# EAGLE library part RS232 (library logic-supply)
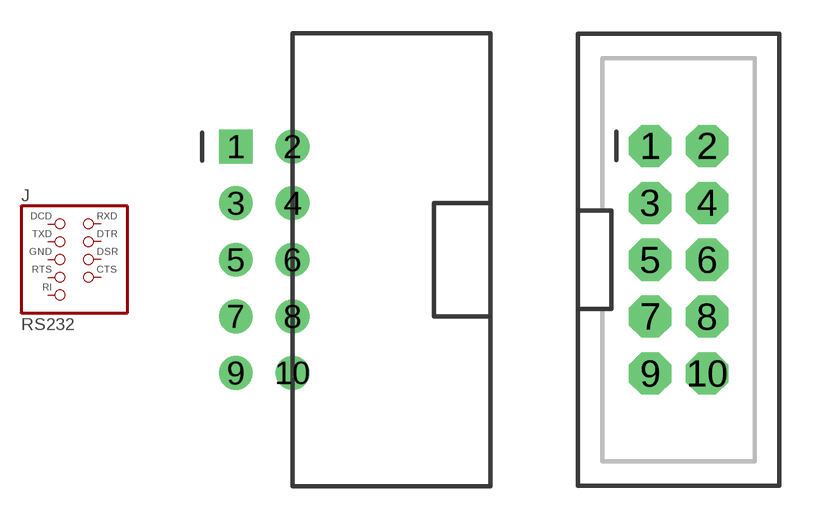
[diagram p5: symbol with the pads of HEADER_2X5-SHROUDED-RA; footprints HEADER_2X5-SHROUDED-RA, HEADER_2X5-SHROUDED]

Designator prefix J

## RS232-IDC10-RA  [HEADER_2X5-SHROUDED-RA]
1  DCD
2  RXD
3  TXD
4  DTR
5  GND  pwr
6  DSR
7  RTS
8  CTS
9  RI

## RS232-IDC10  [HEADER_2X5-SHROUDED]
Pads as for HEADER_2X5-SHROUDED-RA

## RS232-DB9  [DB9]
Pads as for HEADER_2X5-SHROUDED-RA

## RS232-1734354-1  [DB9-1734354-1]
Pads as for HEADER_2X5-SHROUDED-RA

## RS232-DBNB01-9M  [DB9-DBNB01-9M]
Pads as for HEADER_2X5-SHROUDED-RA

## Footprint HEADER_2X5-SHROUDED-RA (pad centres in mm)
drill 1.016 square: 1 -1.27,5.08
drill 1.016: 2 1.27,5.08; 3 -1.27,2.54; 4 1.27,2.54; 5 -1.27,0; 6 1.27,0; 7 -1.27,-2.54; 8 1.27,-2.54; 9 -1.27,-5.08; 10 1.27,-5.08

## Footprint HEADER_2X5-SHROUDED (pad centres in mm)
Derived from SparkFun-Connectors.lbr 2x5-SHROUDED
drill 1.016 pad 1.88 octagon: 1 -1.27,5.08; 2 1.27,5.08; 3 -1.27,2.54; 4 1.27,2.54; 5 -1.27,0; 6 1.27,0; 7 -1.27,-2.54; 8 1.27,-2.54; 9 -1.27,-5.08; 10 1.27,-5.08

## Footprint DB9 (pad centres in mm)
From SparkFun-Connectors.lbr DB9
drill 1.016 pad 1.88 square: 1 -5.54,-1.42
drill 1.016 pad 1.88: 2 -2.77,-1.42; 3 0,-1.42; 4 2.77,-1.42; 5 5.54,-1.42; 6 -4.15,1.42; 7 -1.38,1.42; 8 1.38,1.42; 9 4.15,1.42
drill 3.302 pad 5.08: G1 -12.5,0; G2 12.5,0

## Footprint DB9-1734354-1 (pad centres in mm)
TE Connectivity 1734354-1 DB9 connector.
drill 1.1 pad 1.8: 1 -5.54,-2.84; 2 -2.77,-2.84; 3 0,-2.84; 4 2.77,-2.84; 5 5.54,-2.84; 6 -4.155,0; 7 -1.385,0; 8 1.385,0; 9 4.155,0
drill 3.2: G1 -12.47,-1.42; G2 12.52,-1.42

## Footprint DB9-DBNB01-9M (pad centres in mm)
Panstrong DBNB01-9M slim DB9 connector: http://www.panstrong.com.tw/products/connector/d-sub-connectors-hoods/d-sub-connector/slim-d-sub/dbnb01-9m.html
drill 0.7 pad 1.1: 1 -5.54,0; 2 -2.77,0; 3 0,0; 4 2.77,0; 5 5.54,0; 6 -4.155,0; 7 -1.385,0; 8 1.385,0; 9 4.155,0
drill 3.2: G1 -12.495,1.9; G2 12.495,1.9
hole 1.4 at -7.99,2
hole 1.4 at 7.99,2